# Altium schematic symbol library D_Connectors.SchLib: 4 symbols
Pins are listed as number, name and electrical type; pins without a type are passive.

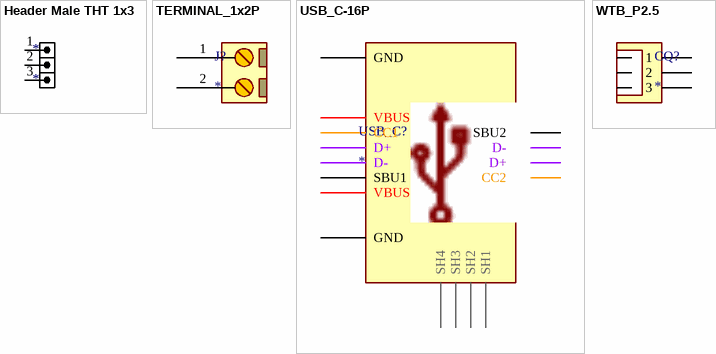
[diagram p0: symbols Header Male THT 1x3 to WTB_P2.5]

## Header Male THT 1x3
designator *
MANUFACTURER: *; MANUFACTURER CODE: *; PROVIDER: *; PROVIDER CODE: *; ComponentLink1Description: PROVIDER LINK; ComponentLink1URL: *; ComponentLink2Description: DATASHEET; ComponentLink2URL: *
footprint HDR_M_1x3
pins: 1, 2, 3

## TERMINAL_1x2P
designator J?
MANUFACTURER: *; MANUFACTURER CODE: *; PROVIDER: *; PROVIDER CODE: *; ComponentLink1Description: PROVIDER LINK; ComponentLink1URL: *; ComponentLink2Description: DATASHEET; ComponentLink2URL: *
footprint JL500-P5.08
pins: 1, 2

## USB_C-16P
designator USB_C?
MANUFACTURER: *; MANUFACTURER CODE: *; PROVIDER: *; PROVIDER CODE: *; ComponentLink1Description: PROVIDER LINk; ComponentLink1URL: *; ComponentLink2Description: DATASHEET; ComponentLink2URL: *
footprint USB_C-GSwitch/7010ASV
pins: A1B12 GND, A4B9 VBUS, A5 CC1, A6 D+, A7 D-, A8 SBU1, B1A12 GND, B4A9 VBUS, B5 CC2, B6 D+, B7 D-, B8 SBU2, SH1, SH2, SH3, SH4

## WTB_P2.5
designator CQ?
MANUFACTURER: *; MANUFACTURER CODE: *; PROVIDER: *; PROVIDER CODE: *; ComponentLink1Description: PROVIDER LINK; ComponentLink1URL: *; ComponentLink2Description: DATASHEET; ComponentLink2URL: *
footprint ZX-XH_P2.5 (1x3P 3P XH Tin 3 -25℃~+85℃ 3A 1 2.5mm Brass Right-Angle Push-Pull,P=2.5mm Wire To Board Connector ROHS)
pins: 1, 2, 3